# EAGLE library part ATMEGA8 (library ATmega8)
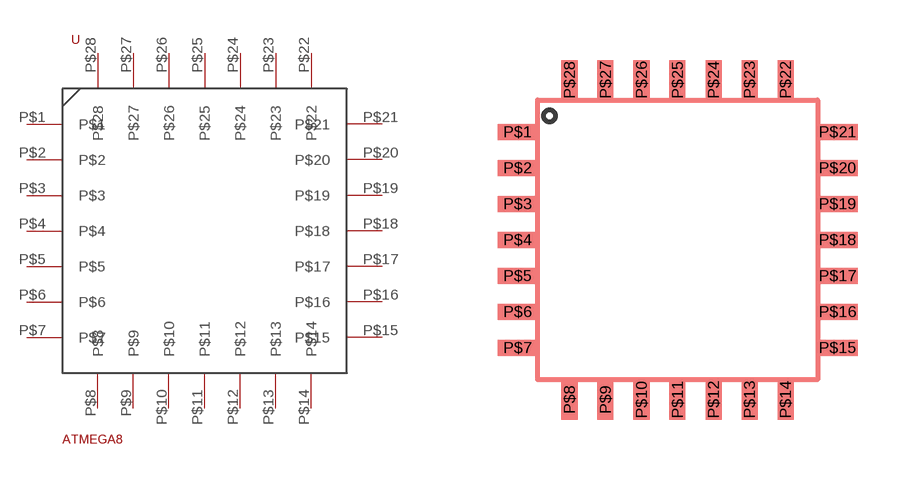
[diagram p0: symbol with the pads of TQFP-ATMEGA8; footprint TQFP-ATMEGA8]

Designator prefix -

## ATMEGA8  [TQFP-ATMEGA8]
P$1  P$1
P$2  P$2
P$3  P$3
P$4  P$4
P$5  P$5
P$6  P$6
P$7  P$7
P$8  P$8
P$9  P$9
P$10  P$10
P$11  P$11
P$12  P$12
P$13  P$13
P$14  P$14
P$15  P$15
P$16  P$16
P$17  P$17
P$18  P$18
P$19  P$19
P$20  P$20
P$21  P$21
P$22  P$22
P$23  P$23
P$24  P$24
P$25  P$25
P$26  P$26
P$27  P$27
P$28  P$28

## Footprint TQFP-ATMEGA8 (pad centres in mm)
smd 1 x 0.4: P$1 -7.1,5.1; P$2 -7.1,4.2; P$3 -7.1,3.3; P$4 -7.1,2.4; P$5 -7.1,1.5; P$6 -7.1,0.6; P$7 -7.1,-0.3; P$15 0.9,-0.3; P$16 0.9,0.6; P$17 0.9,1.5; P$18 0.9,2.4; P$19 0.9,3.3; P$20 0.9,4.2; P$21 0.9,5.1
smd 0.4 x 1: P$8 -5.8,-1.6; P$9 -4.9,-1.6; P$10 -4,-1.6; P$11 -3.1,-1.6; P$12 -2.2,-1.6; P$13 -1.3,-1.6; P$14 -0.4,-1.6; P$22 -0.4,6.4; P$23 -1.3,6.4; P$24 -2.2,6.4; P$25 -3.1,6.4; P$26 -4,6.4; P$27 -4.9,6.4; P$28 -5.8,6.4